# EAGLE library part TMS470R1B768 (library TMS470)
TMS470R1x 16/32-Bit RISC Core (ARM7TDMI®) 768 kbytes FLASH 48 kbytes SRAM 32 Channels Timer 16 Channels 10-bit A/D 5x SPI, 2x SCI 3 HECC CAN Module 87 IO Pins Max 60 MHz
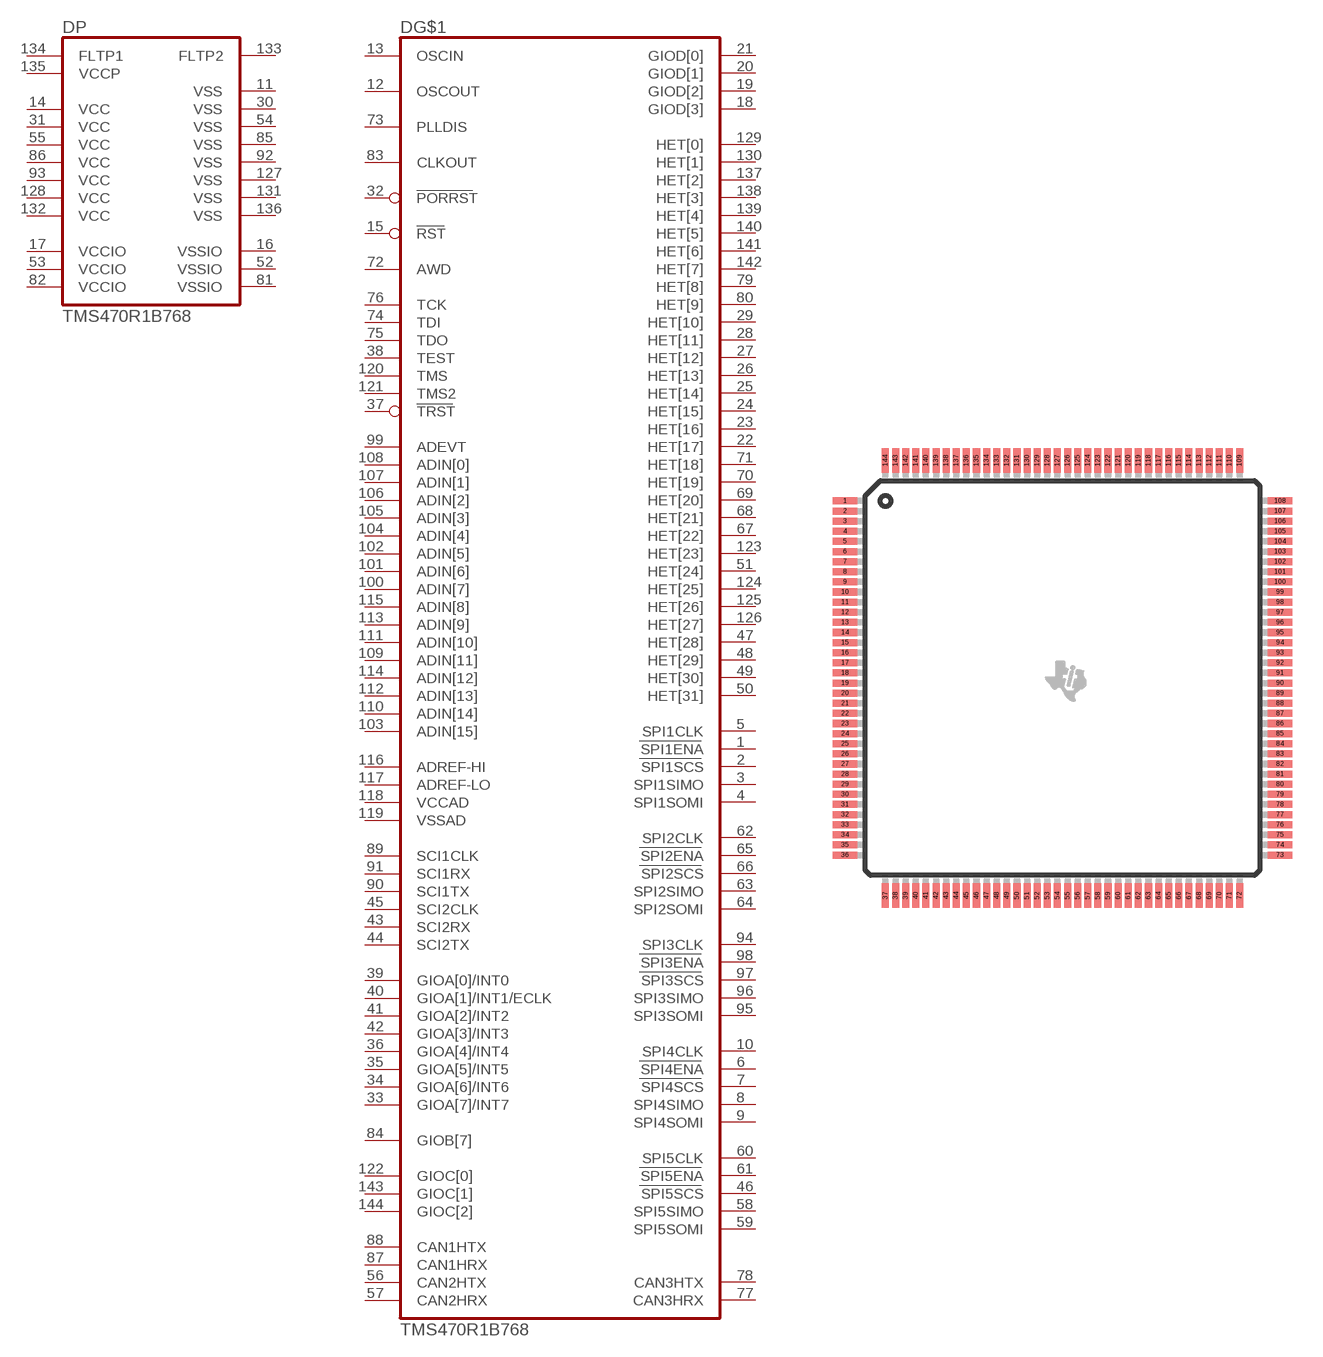
[diagram p2: symbol with the pads of PQFP144; footprint PQFP144]

Designator prefix D; gates G$1=TMS470R1B768 P=SUPPLY-768

## TMS470R1B768PGE  [PQFP144]
1  G$1:SPI1ENA
2  G$1:SPI1SCS
3  G$1:SPI1SIMO
4  G$1:SPI1SOMI
5  G$1:SPI1CLK
6  G$1:SPI4ENA
7  G$1:SPI4SCS
8  G$1:SPI4SIMO
9  G$1:SPI4SOMI
10  G$1:SPI4CLK
11  P:VSS  pwr
12  G$1:OSCOUT  out
13  G$1:OSCIN  in
14  P:VCC  pwr
15  G$1:RST
16  P:VSSIO  pwr
17  P:VCCIO  pwr
18  G$1:GIOD[3]
19  G$1:GIOD[2]
20  G$1:GIOD[1]
21  G$1:GIOD[0]
22  G$1:HET[17]
23  G$1:HET[16]
24  G$1:HET[15]
25  G$1:HET[14]
26  G$1:HET[13]
27  G$1:HET[12]
28  G$1:HET[11]
29  G$1:HET[10]
30  P:VSS  pwr
31  P:VCC  pwr
32  G$1:PORRST  in
33  G$1:GIOA[7]/INT7
34  G$1:GIOA[6]/INT6
35  G$1:GIOA[5]/INT5
36  G$1:GIOA[4]/INT4
37  G$1:TRST  in
38  G$1:TEST  in
39  G$1:GIOA[0]/INT0
40  G$1:GIOA[1]/INT1/ECLK
41  G$1:GIOA[2]/INT2
42  G$1:GIOA[3]/INT3
43  G$1:SCI2RX
44  G$1:SCI2TX
45  G$1:SCI2CLK
46  G$1:SPI5SCS
47  G$1:HET[28]
48  G$1:HET[29]
49  G$1:HET[30]
50  G$1:HET[31]
51  G$1:HET[24]
52  P:VSSIO  pwr
53  P:VCCIO  pwr
54  P:VSS  pwr
55  P:VCC  pwr
56  G$1:CAN2HTX
57  G$1:CAN2HRX
58  G$1:SPI5SIMO
59  G$1:SPI5SOMI
60  G$1:SPI5CLK
61  G$1:SPI5ENA
62  G$1:SPI2CLK
63  G$1:SPI2SIMO
64  G$1:SPI2SOMI
65  G$1:SPI2ENA
66  G$1:SPI2SCS
67  G$1:HET[22]
68  G$1:HET[21]
69  G$1:HET[20]
70  G$1:HET[19]
71  G$1:HET[18]
72  G$1:AWD  in
73  G$1:PLLDIS  in
74  G$1:TDI  in
75  G$1:TDO  out
76  G$1:TCK  in
77  G$1:CAN3HRX
78  G$1:CAN3HTX
79  G$1:HET[8]
80  G$1:HET[9]
81  P:VSSIO  pwr
82  P:VCCIO  pwr
83  G$1:CLKOUT
84  G$1:GIOB[7]
85  P:VSS  pwr
86  P:VCC  pwr
87  G$1:CAN1HRX
88  G$1:CAN1HTX
89  G$1:SCI1CLK
90  G$1:SCI1TX
91  G$1:SCI1RX
92  P:VSS  pwr
93  P:VCC  pwr
94  G$1:SPI3CLK
95  G$1:SPI3SOMI
96  G$1:SPI3SIMO
97  G$1:SPI3SCS
98  G$1:SPI3ENA
99  G$1:ADEVT
100  G$1:ADIN[7]  in
101  G$1:ADIN[6]  in
102  G$1:ADIN[5]  in
103  G$1:ADIN[15]  in
104  G$1:ADIN[4]  in
105  G$1:ADIN[3]  in
106  G$1:ADIN[2]  in
107  G$1:ADIN[1]  in
108  G$1:ADIN[0]  in
109  G$1:ADIN[11]  in
110  G$1:ADIN[14]  in
111  G$1:ADIN[10]  in
112  G$1:ADIN[13]  in
113  G$1:ADIN[9]  in
114  G$1:ADIN[12]  in
115  G$1:ADIN[8]  in
116  G$1:ADREF-HI  in
117  G$1:ADREF-LO  in
118  G$1:VCCAD  pwr
119  G$1:VSSAD  pwr
120  G$1:TMS  in
121  G$1:TMS2  in
122  G$1:GIOC[0]
123  G$1:HET[23]
124  G$1:HET[25]
125  G$1:HET[26]
126  G$1:HET[27]
127  P:VSS  pwr
128  P:VCC  pwr
129  G$1:HET[0]
130  G$1:HET[1]
131  P:VSS  pwr
132  P:VCC  pwr
133  P:FLTP2  pas
134  P:FLTP1  pas
135  P:VCCP  pwr
136  P:VSS  pwr
137  G$1:HET[2]
138  G$1:HET[3]
139  G$1:HET[4]
140  G$1:HET[5]
141  G$1:HET[6]
142  G$1:HET[7]
143  G$1:GIOC[1]
144  G$1:GIOC[2]

## Footprint PQFP144 (pad centres in mm)
Platic Quad Flat Package PGE (S-PQFP-G144)
smd 1.2 x 0.35: 1 -10.75,8.75; 2 -10.75,8.25; 3 -10.75,7.75; 4 -10.75,7.25; 5 -10.75,6.75; 6 -10.75,6.25; 7 -10.75,5.75; 8 -10.75,5.25; 9 -10.75,4.75; 10 -10.75,4.25; 11 -10.75,3.75; 12 -10.75,3.25; 13 -10.75,2.75; 14 -10.75,2.25; 15 -10.75,1.75; 16 -10.75,1.25; 17 -10.75,0.75; 18 -10.75,0.25; 19 -10.75,-0.25; 20 -10.75,-0.75; 21 -10.75,-1.25; 22 -10.75,-1.75; 23 -10.75,-2.25; 24 -10.75,-2.75; 25 -10.75,-3.25; 26 -10.75,-3.75; 27 -10.75,-4.25; 28 -10.75,-4.75; 29 -10.75,-5.25; 30 -10.75,-5.75; 31 -10.75,-6.25; 32 -10.75,-6.75; 33 -10.75,-7.25; 34 -10.75,-7.75; 35 -10.75,-8.25; 36 -10.75,-8.75; 73 10.75,-8.75; 74 10.75,-8.25; 75 10.75,-7.75; 76 10.75,-7.25; 77 10.75,-6.75; 78 10.75,-6.25; 79 10.75,-5.75; 80 10.75,-5.25; 81 10.75,-4.75; 82 10.75,-4.25; 83 10.75,-3.75; 84 10.75,-3.25; 85 10.75,-2.75; 86 10.75,-2.25; 87 10.75,-1.75; 88 10.75,-1.25; 89 10.75,-0.75; 90 10.75,-0.25; 91 10.75,0.25; 92 10.75,0.75; 93 10.75,1.25; 94 10.75,1.75; 95 10.75,2.25; 96 10.75,2.75; 97 10.75,3.25; 98 10.75,3.75; 99 10.75,4.25; 100 10.75,4.75; 101 10.75,5.25; 102 10.75,5.75; 103 10.75,6.25; 104 10.75,6.75; 105 10.75,7.25; 106 10.75,7.75; 107 10.75,8.25; 108 10.75,8.75
smd 0.35 x 1.2: 37 -8.75,-10.75; 38 -8.25,-10.75; 39 -7.75,-10.75; 40 -7.25,-10.75; 41 -6.75,-10.75; 42 -6.25,-10.75; 43 -5.75,-10.75; 44 -5.25,-10.75; 45 -4.75,-10.75; 46 -4.25,-10.75; 47 -3.75,-10.75; 48 -3.25,-10.75; 49 -2.75,-10.75; 50 -2.25,-10.75; 51 -1.75,-10.75; 52 -1.25,-10.75; 53 -0.75,-10.75; 54 -0.25,-10.75; 55 0.25,-10.75; 56 0.75,-10.75; 57 1.25,-10.75; 58 1.75,-10.75; 59 2.25,-10.75; 60 2.75,-10.75; 61 3.25,-10.75; 62 3.75,-10.75; 63 4.25,-10.75; 64 4.75,-10.75; 65 5.25,-10.75; 66 5.75,-10.75; 67 6.25,-10.75; 68 6.75,-10.75; 69 7.25,-10.75; 70 7.75,-10.75; 71 8.25,-10.75; 72 8.75,-10.75; 109 8.75,10.75; 110 8.25,10.75; 111 7.75,10.75; 112 7.25,10.75; 113 6.75,10.75; 114 6.25,10.75; 115 5.75,10.75; 116 5.25,10.75; 117 4.75,10.75; 118 4.25,10.75; 119 3.75,10.75; 120 3.25,10.75; 121 2.75,10.75; 122 2.25,10.75; 123 1.75,10.75; 124 1.25,10.75; 125 0.75,10.75; 126 0.25,10.75; 127 -0.25,10.75; 128 -0.75,10.75; 129 -1.25,10.75; 130 -1.75,10.75; 131 -2.25,10.75; 132 -2.75,10.75; 133 -3.25,10.75; 134 -3.75,10.75; 135 -4.25,10.75; 136 -4.75,10.75; 137 -5.25,10.75; 138 -5.75,10.75; 139 -6.25,10.75; 140 -6.75,10.75; 141 -7.25,10.75; 142 -7.75,10.75; 143 -8.25,10.75; 144 -8.75,10.75